# EAGLE library part WE-FB_LT35XX/LT3748_EP13 (library EagleLibrary_Wuerth_Elektronik_eiSos_rev16a)
WE-FB Flyback Transformer LT35xx / LT3748 Characteristics Standard transformers for various output voltages currents available Easy design of custom power supply due to standard circuit and change of transformers and two components for feedback loop Isolation voltage up to 2.5 kV Applications Isolated power design Sensor interfaces Isolated telecom converters Power over Ethernet <http://katalog.we-online.de/media/images/eisos/UtFB_LT_MID_pf2.jpg> Details see: http://katalog.we-online.de/en/pbs/WE-FB_Linear? Updated 2015-04-03 2015 (C) Wurth Elektronik
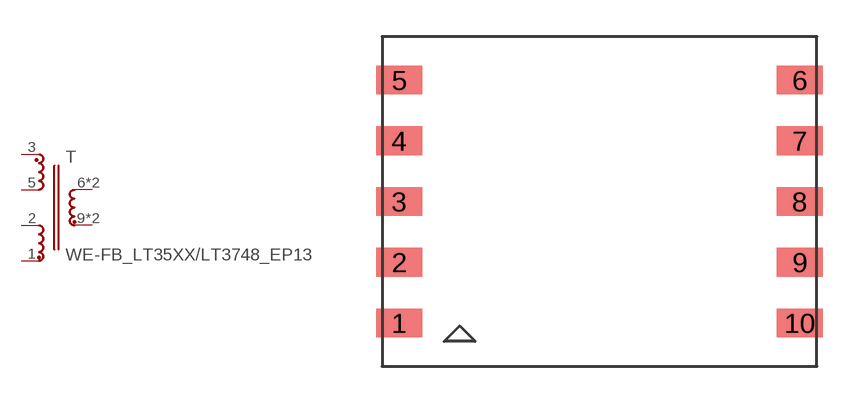
[diagram p86: symbol with the pads of WE-FB_EP13_DIMENSION1; footprint WE-FB_EP13_DIMENSION1]

Designator prefix T

## WE-FB_LT35XX/LT3748_EP13_750311422, WE-FB_LT35XX/LT3748_EP13_750311423, WE-FB_LT35XX/LT3748_EP13_750311424, WE-FB_LT35XX/LT3748_EP13_750311456, WE-FB_LT35XX/LT3748_EP13_750311457, WE-FB_LT35XX/LT3748_EP13_750311458, WE-FB_LT35XX/LT3748_EP13_750311564, WE-FB_LT35XX/LT3748_EP13_750311624, WE-FB_LT35XX/LT3748_EP13_750311625  [WE-FB_EP13_DIMENSION1]
1  4  pas
2  5  pas
3  1  pas
5  6  pas
6  2  pas
7  2  pas
9  3  pas
10  3  pas

## Footprint WE-FB_EP13_DIMENSION1 (pad centres in mm)
smd 1.88 x 1.17: 1 -8.18,-4.96; 2 -8.18,-2.48; 3 -8.18,0; 4 -8.18,2.48; 5 -8.18,4.96; 6 8.18,4.96; 7 8.18,2.48; 8 8.18,0; 9 8.18,-2.48; 10 8.18,-4.96